# EAGLE library part MICRO_MATE-N-LOK_10 (library con-tyco-micro-mate-n-lok-old)
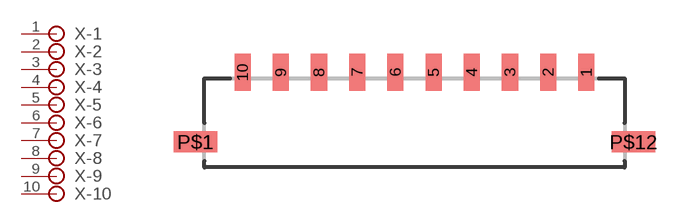
[diagram p2: symbol with the pads of MICRO_MATE-N-LOK_10_SURFACE_HORIZONTAL; footprint MICRO_MATE-N-LOK_10_SURFACE_HORIZONTAL]

Designator prefix X; gates -5=PIN -4=PIN -3=PIN -2=PIN -1=PIN -6=PIN -7=PIN -8=PIN -9=PIN -10=PIN

## MICRO_MATE-N-LOK_10  [MICRO_MATE-N-LOK_10_SURFACE_HORIZONTAL]
1  -1:P$1
2  -2:P$1
3  -3:P$1
4  -4:P$1
5  -5:P$1
6  -6:P$1
7  -7:P$1
8  -8:P$1
9  -9:P$1
10  -10:P$1

## Footprint MICRO_MATE-N-LOK_10_SURFACE_HORIZONTAL (pad centres in mm)
smd 1.27 x 2.92: 1 27,5.48; 2 24,5.48; 3 21,5.48; 4 18,5.48; 5 15,5.48; 6 12,5.48; 7 9,5.48; 8 6,5.48; 9 3,5.48; 10 0,5.48
smd 3.43 x 1.65: P$1 -3.705,0; P$12 30.705,0